# Altium footprint library 5054311000.PcbLib: 1 footprints
Each footprint in its own frame and in the unit in brackets; x right, y up, seen from the top. Pads: shape width x height; smd on the part's side, far side on the other; paste and mask are expansions set on the pad; w line width, h text height; cw(c..) or ccw(c..) is an arc to the next point about the centre after c.

## 5054311000 [mm]
3D body "5054311000.stp": height 1.64, standoff -0.1, extent -2.6,-6.3 9.3,2.931